# Altium footprint library 51常用（1）.PcbLib: 20 footprints (part 2 of 2)
Each footprint in its own frame and in the unit in brackets; x right, y up, seen from the top. Pads: shape width x height; smd on the part's side, far side on the other; paste and mask are expansions set on the pad; w line width, h text height; cw(c..) or ccw(c..) is an arc to the next point about the centre after c.
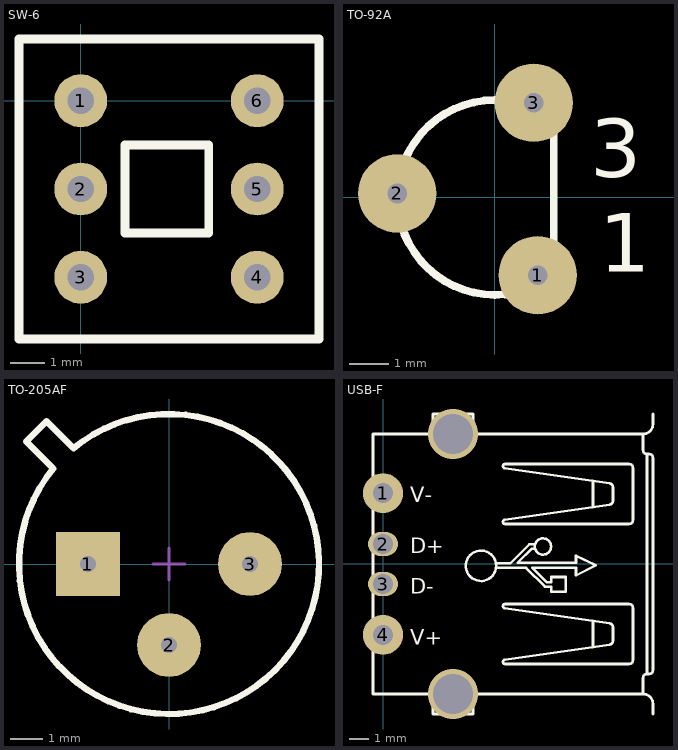
[diagram p1: the footprints below, top view; thin cyan lines are the x and y axes]

## SW-6 [mil]
pads (6):
  round 60 hole 30: 1(0,0) 2(0,-100) 3(0,-200) 4(200,-200) 5(200,-100) 6(200,0)
Top Overlay:
  lines w10: -70,-270 -70,70 270,70 270,-270 -70,-270 ; 50,-150 145,-150 145,-50 50,-50 50,-150

## TO-92A [mm] "TO, Flat Index; 3 In-Line, Axial Leads; Body Dia. 4.5mm; Leads 0.51 x 0.48 mm (max)"
height 6.86
pads (3):
  round 2 hole 0.5: 1(1.092,-1.981) 2(-2.489,0.102) 3(0.991,2.413)
Top Overlay:
  lines w0.2: 1.5,-1.98 cw(c0,0) 1.5,1.98 1.5,-1.98
  text "1" at 2.66,-1.9 h1.5
  text "3" at 2.43,0.51 h1.5

## TO-205AF [mm] "Can; 3 Leads; Pin Circle Dia. 5.08 mm; Lead Dia"
height 4.57
pads (3):
  rect 2x2 hole 0.5: 1(-2.54,0)
  round 2 hole 0.5: 2(0,-2.54) 3(2.54,0)
Top Overlay:
  lines w0.2: -4.475,3.838 -3.838,4.475 -2.99,3.626 cw(c0,0) -3.626,2.99 -4.475,3.838
Mechanical 15:
  lines w0.1: -0.5,0 0.5,0 ; 0,-0.5 0,0.5

## USB-F [mm]
height 7
pads (4):
  round 2 hole 1: 1(0,3.54) 4(0,-3.54)
  oval 1.5x1.2 hole 1: 2(0,1) 3(0,-1)
via 3.5,6.5 diameter 2.5 hole 2
via 3.5,-6.5 diameter 2.5 hole 2
Top Overlay:
  circle w0.127: c7.998,0.874 r0.406
  circle w0.127: c4.899,-0.091 r0.762
  lines w0.127: 5.636,-0.192 7.16,-0.192 8.1,-1.132 8.405,-1.132 8.405,-1.386 9.141,-1.386 9.141,-0.65 8.405,-0.65 8.405,-0.904 8.176,-0.904 7.465,-0.192 9.649,-0.192 9.649,-0.573 10.64,-0.065 9.649,0.417 9.649,0.062 6.728,0.062 7.439,0.773 7.617,0.773 ; 5.636,0.036 6.373,0.036 7.312,0.976 7.617,0.976 ; 10.5,-4.151 10.5,-2.85 ; 10.5,2.849 10.5,4.15 ; 13.5,-7.5 13.5,-7 ccw(c13,-7) 13,-6.5 ; 13.5,7.5 13.5,7 cw(c13,7) 13,6.5 ; 13,-6.5 4.5,-6.5 4.5,-7.5 2.5,-7.5 2.5,-6.5 -0.5,-6.5 -0.5,6.5 2.5,6.5 2.5,7.5 4.5,7.5 4.5,6.5 13,6.5 ; 13,-6.5 13,-5.7 cw(c13.2,-5.7) 13.2,-5.5 ; 13,6.5 13,5.7 ccw(c13.2,5.7) 13.2,5.5 ; 13.2,-5.5 13.3,-5.5 ccw(c13.3,-5.3) 13.5,-5.3 13.5,5.3 ccw(c13.3,5.3) 13.3,5.5 13.2,5.5 ; 13.2,-5.5 13.2,5.5 ; 6,-4.9 ccw(c6.1,-4.9) 6.1,-5 12.3,-5 ccw(c12.3,-4.8) 12.5,-4.8 12.5,-2.2 ccw(c12.3,-2.2) 12.3,-2 6.1,-2 ccw(c6.1,-2.1) 6,-2.1 6,-2.113 ccw(c6.1,-2.113) 6.086,-2.212 11.336,-2.97 cw(c11.3,-3.167) 11.5,-3.167 11.5,-3.833 cw(c11.3,-3.833) 11.336,-4.03 6.086,-4.788 ccw(c6.1,-4.887) 6,-4.887 6,-4.9 ; 6,2.1 ccw(c6.1,2.1) 6.1,2 12.3,2 ccw(c12.3,2.2) 12.5,2.2 12.5,4.8 ccw(c12.3,4.8) 12.3,5 6.1,5 ccw(c6.1,4.9) 6,4.9 6,4.887 ccw(c6.1,4.887) 6.086,4.788 11.336,4.03 cw(c11.3,3.833) 11.5,3.833 11.5,3.167 cw(c11.3,3.167) 11.336,2.97 6.086,2.212 ccw(c6.1,2.113) 6,2.113 6,2.1
  text "V+" at 1.365,-4.029 h0.76
  text "V-" at 1.365,3.083 h0.76
  text "D+" at 1.365,0.543 h0.76
  text "D-" at 1.365,-1.489 h0.76